# EAGLE library part NCV8141 (library D2PAK-7)
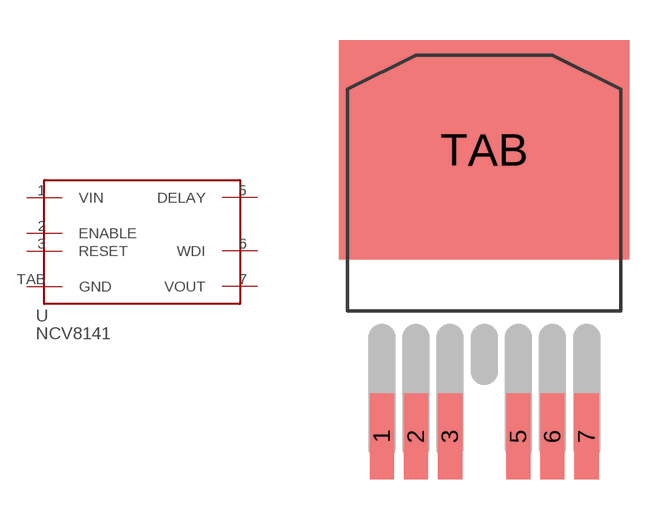
[diagram p1: symbol with the pads of D2PAK-7; footprint D2PAK-7]

Designator prefix -

## NCV8141D2TR4G  [D2PAK-7]
1  VIN
2  ENABLE
3  RESET
5  DELAY
6  WDI
7  VOUT
TAB  GND

## Footprint D2PAK-7 (pad centres in mm)
smd 0.9 x 3.2: 1 -3.81,-6.56; 2 -2.54,-6.56; 3 -1.27,-6.56; 5 1.27,-6.56; 6 2.54,-6.56; 7 3.81,-6.56
smd 10.8 x 8.15: TAB 0,4.1